# EAGLE library part HEADER-9P (library Deegou_Connector)
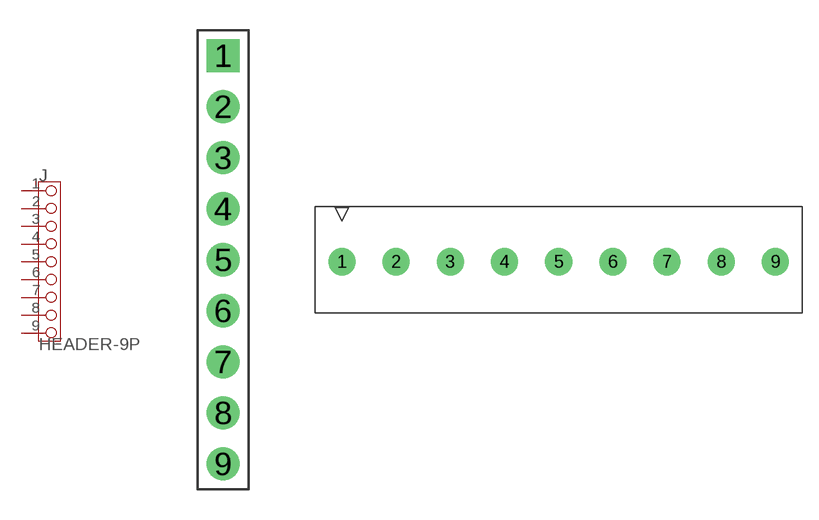
[diagram p43: symbol with the pads of 9P-2.54; footprints 9P-2.54, 9P-SCREW-5.08]

Designator prefix J

## HEADER-9P-2.54  [9P-2.54]
1  1
2  2
3  3
4  4
5  5
6  6
7  7
8  8
9  9

## HEADER-9P-5.08  [9P-SCREW-5.08]
Pads as for 9P-2.54

## Footprint 9P-2.54 (pad centres in mm)
drill 0.889 pad 1.651 square: 1 0,10.16
drill 0.889 pad 1.651: 2 0,7.62; 3 0,5.08; 4 0,2.54; 5 0,0; 6 0,-2.54; 7 0,-5.08; 8 0,-7.62; 9 0,-10.16

## Footprint 9P-SCREW-5.08 (pad centres in mm)
drill 1.4 pad 2.54: 1 -20.32,0; 2 -15.24,0; 3 -10.16,0; 4 -5.08,0; 5 0,0; 6 5.08,0; 7 10.16,0; 8 15.24,0; 9 20.32,0